# EAGLE library part ADS1115 (library kxnStandard_IC_Function)
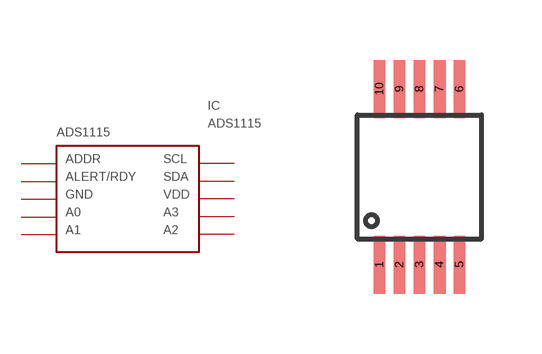
[diagram p3: symbol with the pads of ADS1115; footprint ADS1115]

Designator prefix IC

## ADS1115VSSOP10 (CC_SHOP: CongCo)  [ADS1115]
1  1
2  2
3  3
4  4
5  5
6  6
7  7
8  8
9  9
10  10

## Footprint ADS1115 (pad centres in mm)
smd 0.3 x 1.45: 1 -1,-2.2; 2 -0.5,-2.2; 3 0,-2.2; 4 0.5,-2.2; 5 1,-2.2; 6 1,2.2; 7 0.5,2.2; 8 0,2.2; 9 -0.5,2.2; 10 -1,2.2